# Altium schematic symbol library 7461097.SchLib: 1 symbol
Pins are listed as number, name and electrical type; pins without a type are passive.

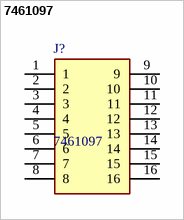
[diagram p0: symbol 7461097]

## 7461097
designator J?
Wurth Elektronik REDCUBE 16 Pin Power Element, 240A, Press Fit, M6, Vertical; Geometry.Height: 10.5mm; Mouser Part Number: 710-7461097; Mouser Price/Stock: https://www.mouser.co.uk/ProductDetail/Wurth-Elektronik/7461097?qs=lykWx4dhCCFiGYmaGz0l0w%3D%3D; Manufacturer_Name: Wurth Elektronik; Manufacturer_Part_Number: 7461097; Datasheet Link: https://componentsearchengine.com/Datasheets/1/7461097.pdf
footprint 7461097
pins: 1, 2, 3, 4, 5, 6, 7, 8, 9, 10, 11, 12, 13, 14, 15, 16